# EAGLE library part ZMOD4450 (library SparkFun-Sensors)
ZMOD4450 Food-Ripening Gas Sensor The ZMOD4450 gas sensor module is a software configurable platform designed for detecting gases associated with food ripening or rotting and is targeted for use in refrigeration air quality (RAQ) applications. The sensor is a 12-pin LGA assembly (3.0 x 3.0 x 0.7 mm) that consists of a gas sense element and a CMOS signal conditioning IC. The module’s sense element consists of a micro-heater and sensing material integrated on a silicon-based MEMS structure. It measures the metal oxide (MOx) conductivity, which is a function of the gas concentration. SparkFun Products: SparkFun Refrigeration Gas Sensor ZMOD4450 (Qwiic) <https://www.sparkfun.com/products/15106>
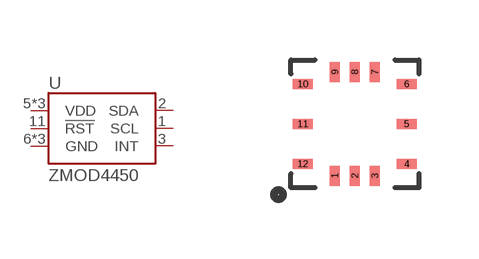
[diagram p71: symbol with the pads of LGA-12-3X3; footprint LGA-12-3X3]

Designator prefix U

## ZMOD4450 (PROD_ID: IC-15106; VALUE: ZMOD4450 Refrigeration Gas Sensor)  [LGA-12-3X3]
1  SCL
2  SDA
3  INT
5  VDD
6  GND
7  GND
9  GND
10  VDD
11  !RST
12  VDD

## Footprint LGA-12-3X3 (pad centres in mm)
12-LGA - 3x3 mm Specifications: Pin count: 12 Pin pitch: 0.50 mm Area: 3x3mm Datasheet referenced for footprint <https://www.idt.com/us/en/document/dst/zmod4450-datasheet>
smd 0.25 x 0.5: 1 -0.5,-1.3; 2 0,-1.3; 3 0.5,-1.3; 7 0.5,1.3; 8 0,1.3; 9 -0.5,1.3
smd 0.5 x 0.25: 4 1.3,-1; 5 1.3,0; 6 1.3,1; 10 -1.3,1; 11 -1.3,0; 12 -1.3,-1